# Altium schematic symbol library Pot250K.SchLib: 1 symbol
Pins are listed as number, name and electrical type; pins without a type are passive.

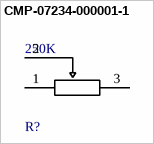
[diagram p0: symbol CMP-07234-000001-1]

## CMP-07234-000001-1
designator R?, comment 250K
TRIMMER 250K OHM 0.5W PC PIN TOP; Manufacturer: Bourns; Manufacturer Part Number: 3296W-1-254LF; Value: 250kΩ; Standoff Height: 0.38mm; Temperature Coefficient: 100ppm/°C; Tolerance: 10%; Voltage Rating: 300V; Category: Res; Octopart: https://octopart.com/3296w-1-254lf-bourns-574856; Device Class L2: Resistors; Mouser Description: Res Cermet Trimmer 250K Ohm 10% 1/2W 25(Elec)Turn 2.19mm (9.53 X 4.83 X 11.55mm) Pin Thru-Hole Tube; Temperature: -55°C to +125°C; Temperature Range Low: -55°C; ComponentLink2URL: https://www.bourns.com/data/global/pdfs/3296.pdf; Power Rating: 0.5W; Package: 3296W; Lead Free: Yes; Series: Trimpot 3296-Sealed; Height: 12.05mm; Device Class L1: Passive Components; Device Class L3: Variable Resistors and Potentiometers; ComponentLink2Description: Datasheet; Resistance: 250kΩ; Digikey Description: TRIMMER 250K OHM 0.5W PC PIN TOP; Automotive: No; RoHS: TRUE; Temperature Range High: +125°C
footprint FP-3296W-MFG
pins: 1 CCW, 2 WIPER, 3 CW